# Altium schematic symbol library Miscellaneous Devices.SCHLIB: 265 symbols
Pins are listed as number, name and electrical type; pins without a type are passive.

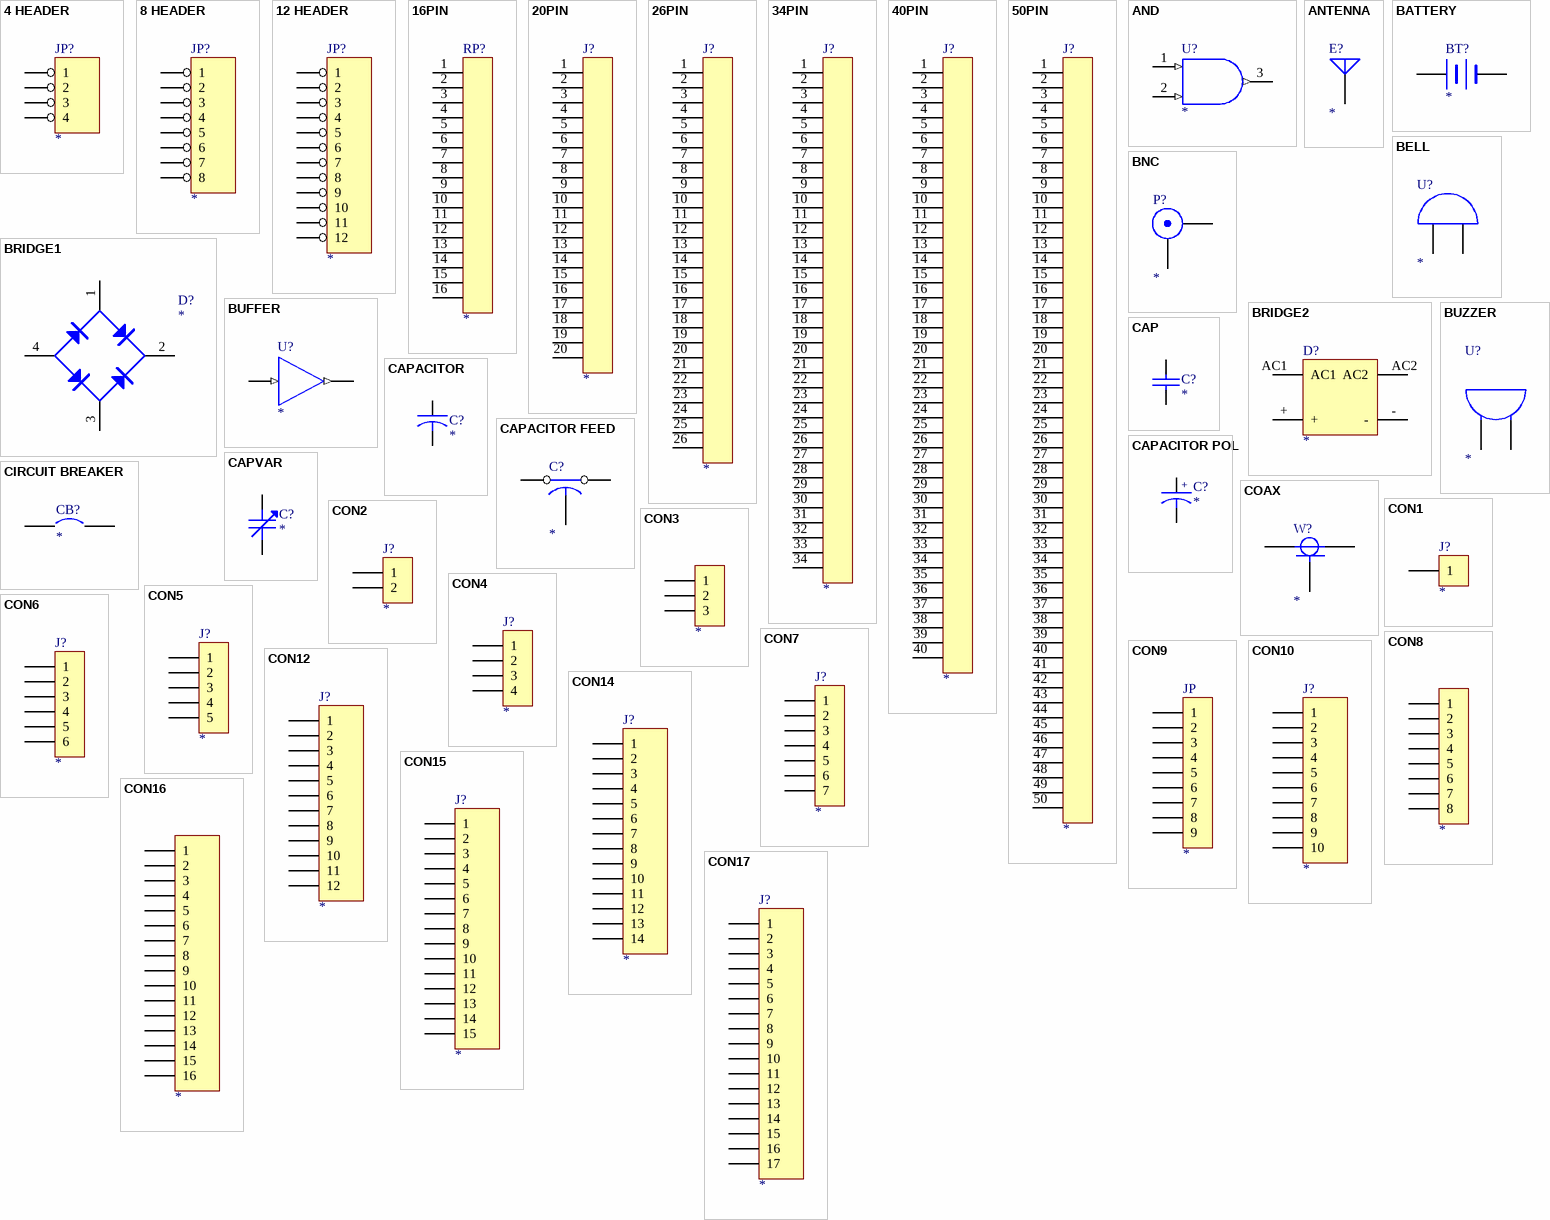
[diagram p0: symbols 4 HEADER to CON17]

## 4 HEADER
designator JP?
4 Pin Header
pins: 1, 2, 3, 4

## 8 HEADER
designator JP?
8 Pin Header
pins: 1, 2, 3, 4, 5, 6, 7, 8

## 12 HEADER
designator JP?
12 Pin Header
pins: 1, 2, 3, 4, 5, 6, 7, 8, 9, 10, 11, 12

## 16PIN
designator RP?
footprint IDC16
pins: 1, 2, 3, 4, 5, 6, 7, 8, 9, 10, 11, 12, 13, 14, 15, 16

## 20PIN
designator J?
footprint IDC20
pins: 1, 2, 3, 4, 5, 6, 7, 8, 9, 10, 11, 12, 13, 14, 15, 16, 17, 18, 19, 20

## 26PIN
designator J?
footprint IDC26
pins: 1, 2, 3, 4, 5, 6, 7, 8, 9, 10, 11, 12, 13, 14, 15, 16, 17, 18, 19, 20, 21, 22, 23, 24, 25, 26

## 34PIN
designator J?
footprint IDC34
pins: 1, 2, 3, 4, 5, 6, 7, 8, 9, 10, 11, 12, 13, 14, 15, 16, 17, 18, 19, 20, 21, 22, 23, 24, 25, 26, 27, 28, 29, 30, 31, 32, 33, 34

## 40PIN
designator J?
footprint IDC40
pins: 1, 2, 3, 4, 5, 6, 7, 8, 9, 10, 11, 12, 13, 14, 15, 16, 17, 18, 19, 20, 21, 22, 23, 24, 25, 26, 27, 28, 29, 30, 31, 32, 33, 34, 35, 36, 37, 38, 39, 40

## 50PIN
designator J?
footprint IDC50
pins: 1, 2, 3, 4, 5, 6, 7, 8, 9, 10, 11, 12, 13, 14, 15, 16, 17, 18, 19, 20, 21, 22, 23, 24, 25, 26, 27, 28, 29, 30, 31, 32, 33, 34, 35, 36, 37, 38, 39, 40, 41, 42, 43, 44, 45, 46, 47, 48, 49, 50

## AND
designator U?
AND Gate
pins: 1 A (in), 2 B (in), 3 Y (out)

## ANTENNA
designator E?
Generic Antenna
pins: 1 A

## BATTERY
designator BT?
Battery
pins: 1 +, 2 -

## BELL
designator U?
Bell
pins: 1 A, 2 B

## BNC
designator P?
BNC Connector
pins: 1 X, 2 Y

## BRIDGE1
designator D?
Diode Bridge
footprint BRIDGE
pins: 1 AC, 2 V+, 3 AC, 4 V-

## BRIDGE2
designator D?
Diode Bridge
footprint BRIDGE
pins: +, -, AC1, AC2

## BUFFER
designator U?
Buffer
pins: 1 A (in), 2 Y (out)

## BUZZER
designator U?
Buzzer
pins: 1 A, 2 B

## CAP
designator C?
Capacitor
pins: 1, 2

## CAPACITOR
designator C?
Capacitor
pins: 1, 2

## CAPACITOR FEED
designator C?
Feed-Through Capacitor
pins: 1, 2, 3

## CAPACITOR POL
designator C?
Capacitor
pins: 1, 2
text: +

## CAPVAR
designator C?
Variable Capacitor
pins: 1, 2

## CIRCUIT BREAKER
designator CB?
Circuit Breaker
pins: 1, 2

## COAX
designator W?
Coaxial
pins: 1 CENTER 1, 2 CENTER 2, 3 SHIELD

## CON1
designator J?
Connector
pins: 1

## CON2
designator J?
Connector
pins: 1, 2

## CON3
designator ?
Connector
footprint SIP3
footprint SIP-3
pins: 1, 2, 3

## CON4
designator J?
Connector
pins: 1, 2, 3, 4

## CON5
designator J?
Connector
pins: 1, 2, 3, 4, 5

## CON6
designator J?
Connector
pins: 1, 2, 3, 4, 5, 6

## CON7
designator J?
Connector
pins: 1, 2, 3, 4, 5, 6, 7

## CON8
designator ?
Connector
footprint SIP8
footprint SIP-8
pins: 1, 2, 3, 4, 5, 6, 7, 8

## CON9
designator JP
Connector
footprint SIP9
pins: 1, 2, 3, 4, 5, 6, 7, 8, 9

## CON10
designator J?
Connector
pins: 1, 2, 3, 4, 5, 6, 7, 8, 9, 10

## CON12
designator J?
Connector
pins: 1, 2, 3, 4, 5, 6, 7, 8, 9, 10, 11, 12

## CON14
designator J?
Connector
pins: 1, 2, 3, 4, 5, 6, 7, 8, 9, 10, 11, 12, 13, 14

## CON15
designator J?
Connector
pins: 1, 2, 3, 4, 5, 6, 7, 8, 9, 10, 11, 12, 13, 14, 15

## CON16
designator ?
Connector
footprint SIP16
footprint SIP-16
pins: 1, 2, 3, 4, 5, 6, 7, 8, 9, 10, 11, 12, 13, 14, 15, 16

## CON17
designator J?
Connector
pins: 1, 2, 3, 4, 5, 6, 7, 8, 9, 10, 11, 12, 13, 14, 15, 16, 17

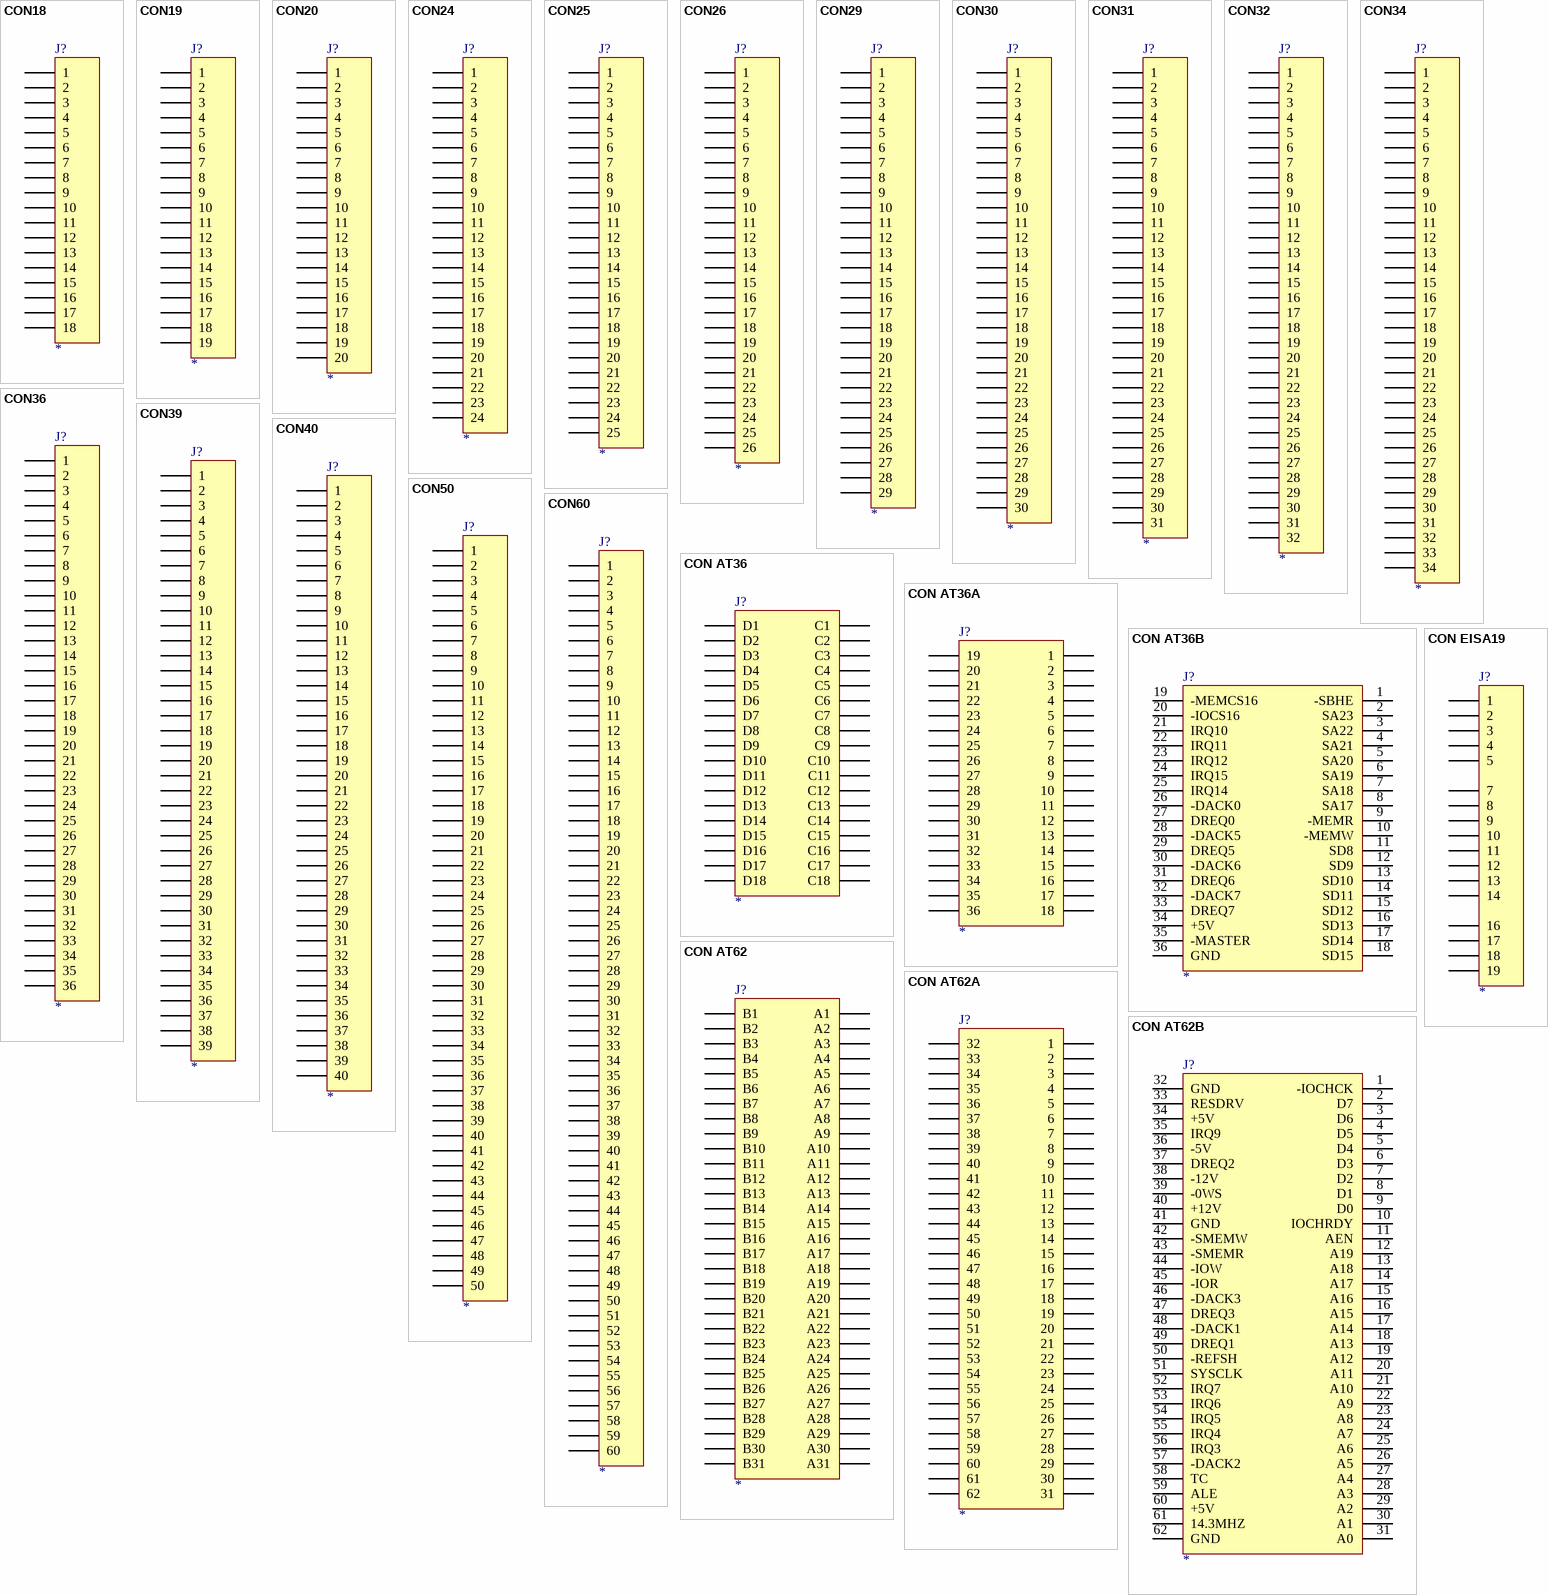
[diagram p1: symbols CON18 to CON EISA19]

## CON18
designator J?
Connector
pins: 1, 2, 3, 4, 5, 6, 7, 8, 9, 10, 11, 12, 13, 14, 15, 16, 17, 18

## CON19
designator J?
Connector
pins: 1, 2, 3, 4, 5, 6, 7, 8, 9, 10, 11, 12, 13, 14, 15, 16, 17, 18, 19

## CON20
designator J?
Connector
pins: 1, 2, 3, 4, 5, 6, 7, 8, 9, 10, 11, 12, 13, 14, 15, 16, 17, 18, 19, 20

## CON24
designator J?
Connector
pins: 1, 2, 3, 4, 5, 6, 7, 8, 9, 10, 11, 12, 13, 14, 15, 16, 17, 18, 19, 20, 21, 22, 23, 24

## CON25
designator J?
Connector
pins: 1, 2, 3, 4, 5, 6, 7, 8, 9, 10, 11, 12, 13, 14, 15, 16, 17, 18, 19, 20, 21, 22, 23, 24, 25

## CON26
designator J?
Connector
pins: 1, 2, 3, 4, 5, 6, 7, 8, 9, 10, 11, 12, 13, 14, 15, 16, 17, 18, 19, 20, 21, 22, 23, 24, 25, 26

## CON29
designator J?
Connector
pins: 1, 2, 3, 4, 5, 6, 7, 8, 9, 10, 11, 12, 13, 14, 15, 16, 17, 18, 19, 20, 21, 22, 23, 24, 25, 26, 27, 28, 29

## CON30
designator J?
Connector
pins: 1, 2, 3, 4, 5, 6, 7, 8, 9, 10, 11, 12, 13, 14, 15, 16, 17, 18, 19, 20, 21, 22, 23, 24, 25, 26, 27, 28, 29, 30

## CON31
designator J?
Connector
pins: 1, 2, 3, 4, 5, 6, 7, 8, 9, 10, 11, 12, 13, 14, 15, 16, 17, 18, 19, 20, 21, 22, 23, 24, 25, 26, 27, 28, 29, 30, 31

## CON32
designator J?
Connector
pins: 1, 2, 3, 4, 5, 6, 7, 8, 9, 10, 11, 12, 13, 14, 15, 16, 17, 18, 19, 20, 21, 22, 23, 24, 25, 26, 27, 28, 29, 30, 31, 32

## CON34
designator J?
Connector
pins: 1, 2, 3, 4, 5, 6, 7, 8, 9, 10, 11, 12, 13, 14, 15, 16, 17, 18, 19, 20, 21, 22, 23, 24, 25, 26, 27, 28, 29, 30, 31, 32, 33, 34

## CON36
designator J?
Connector
pins: 1, 2, 3, 4, 5, 6, 7, 8, 9, 10, 11, 12, 13, 14, 15, 16, 17, 18, 19, 20, 21, 22, 23, 24, 25, 26, 27, 28, 29, 30, 31, 32, 33, 34, 35, 36

## CON39
designator J?
Connector
pins: 1, 2, 3, 4, 5, 6, 7, 8, 9, 10, 11, 12, 13, 14, 15, 16, 17, 18, 19, 20, 21, 22, 23, 24, 25, 26, 27, 28, 29, 30, 31, 32, 33, 34, 35, 36, 37, 38, 39

## CON40
designator J?
Connector
pins: 1, 2, 3, 4, 5, 6, 7, 8, 9, 10, 11, 12, 13, 14, 15, 16, 17, 18, 19, 20, 21, 22, 23, 24, 25, 26, 27, 28, 29, 30, 31, 32, 33, 34, 35, 36, 37, 38, 39, 40

## CON50
designator J?
Connector
pins: 1, 2, 3, 4, 5, 6, 7, 8, 9, 10, 11, 12, 13, 14, 15, 16, 17, 18, 19, 20, 21, 22, 23, 24, 25, 26, 27, 28, 29, 30, 31, 32, 33, 34, 35, 36, 37, 38, 39, 40, 41, 42, 43, 44, 45, 46, 47, 48, 49, 50

## CON60
designator J?
Connector
pins: 1, 2, 3, 4, 5, 6, 7, 8, 9, 10, 11, 12, 13, 14, 15, 16, 17, 18, 19, 20, 21, 22, 23, 24, 25, 26, 27, 28, 29, 30, 31, 32, 33, 34, 35, 36, 37, 38, 39, 40, 41, 42, 43, 44, 45, 46, 47, 48, 49, 50, 51, 52, 53, 54, 55, 56, 57, 58, 59, 60

## CON AT36
designator J?
36 Pin AT Connector
pins: C1, C2, C3, C4, C5, C6, C7, C8, C9, C10, C11, C12, C13, C14, C15, C16, C17, C18, D1, D2, D3, D4, D5, D6, D7, D8, D9, D10, D11, D12, D13, D14, D15, D16, D17, D18

## CON AT36A
designator J?
36 Pin AT Connector
pins: 1, 2, 3, 4, 5, 6, 7, 8, 9, 10, 11, 12, 13, 14, 15, 16, 17, 18, 19, 20, 21, 22, 23, 24, 25, 26, 27, 28, 29, 30, 31, 32, 33, 34, 35, 36

## CON AT36B
designator J?
36 Pin AT Connector
pins: 1 -SBHE, 2 SA23, 3 SA22, 4 SA21, 5 SA20, 6 SA19, 7 SA18, 8 SA17, 9 -MEMR, 10 -MEMW, 11 SD8, 12 SD9, 13 SD10, 14 SD11, 15 SD12, 16 SD13, 17 SD14, 18 SD15, 19 -MEMCS16, 20 -IOCS16, 21 IRQ10, 22 IRQ11, 23 IRQ12, 24 IRQ15, 25 IRQ14, 26 -DACK0, 27 DREQ0, 28 -DACK5, 29 DREQ5, 30 -DACK6, 31 DREQ6, 32 -DACK7, 33 DREQ7, 34 +5V, 35 -MASTER, 36 GND

## CON AT62
designator J?
62 Pin AT Connector
pins: A1, A2, A3, A4, A5, A6, A7, A8, A9, A10, A11, A12, A13, A14, A15, A16, A17, A18, A19, A20, A21, A22, A23, A24, A25, A26, A27, A28, A29, A30, A31, B1, B2, B3, B4, B5, B6, B7, B8, B9, B10, B11, B12, B13, B14, B15, B16, B17, B18, B19, B20, B21, B22, B23, B24, B25, B26, B27, B28, B29, B30, B31

## CON AT62A
designator J?
62 Pin AT Connector
pins: 1, 2, 3, 4, 5, 6, 7, 8, 9, 10, 11, 12, 13, 14, 15, 16, 17, 18, 19, 20, 21, 22, 23, 24, 25, 26, 27, 28, 29, 30, 31, 32, 33, 34, 35, 36, 37, 38, 39, 40, 41, 42, 43, 44, 45, 46, 47, 48, 49, 50, 51, 52, 53, 54, 55, 56, 57, 58, 59, 60, 61, 62

## CON AT62B
designator J?
62 Pin AT Connector
pins: 1 -IOCHCK, 2 D7, 3 D6, 4 D5, 5 D4, 6 D3, 7 D2, 8 D1, 9 D0, 10 IOCHRDY, 11 AEN, 12 A19, 13 A18, 14 A17, 15 A16, 16 A15, 17 A14, 18 A13, 19 A12, 20 A11, 21 A10, 22 A9, 23 A8, 24 A7, 25 A6, 26 A5, 27 A4, 28 A3, 29 A2, 30 A1, 31 A0, 32 GND, 33 RESDRV, 34 +5V, 35 IRQ9, 36 -5V, 37 DREQ2, 38 -12V, 39 -0WS, 40 +12V, 41 GND, 42 -SMEMW, 43 -SMEMR, 44 -IOW, 45 -IOR, 46 -DACK3, 47 DREQ3, 48 -DACK1, 49 DREQ1, 50 -REFSH, 51 SYSCLK, 52 IRQ7, 53 IRQ6, 54 IRQ5, 55 IRQ4, 56 IRQ3, 57 -DACK2, 58 TC, 59 ALE, 60 +5V, 61 14.3MHZ, 62 GND

## CON EISA19
designator J?
19 Pin EISA Connector
pins: 1, 2, 3, 4, 5, 7, 8, 9, 10, 11, 12, 13, 14, 16, 17, 18, 19

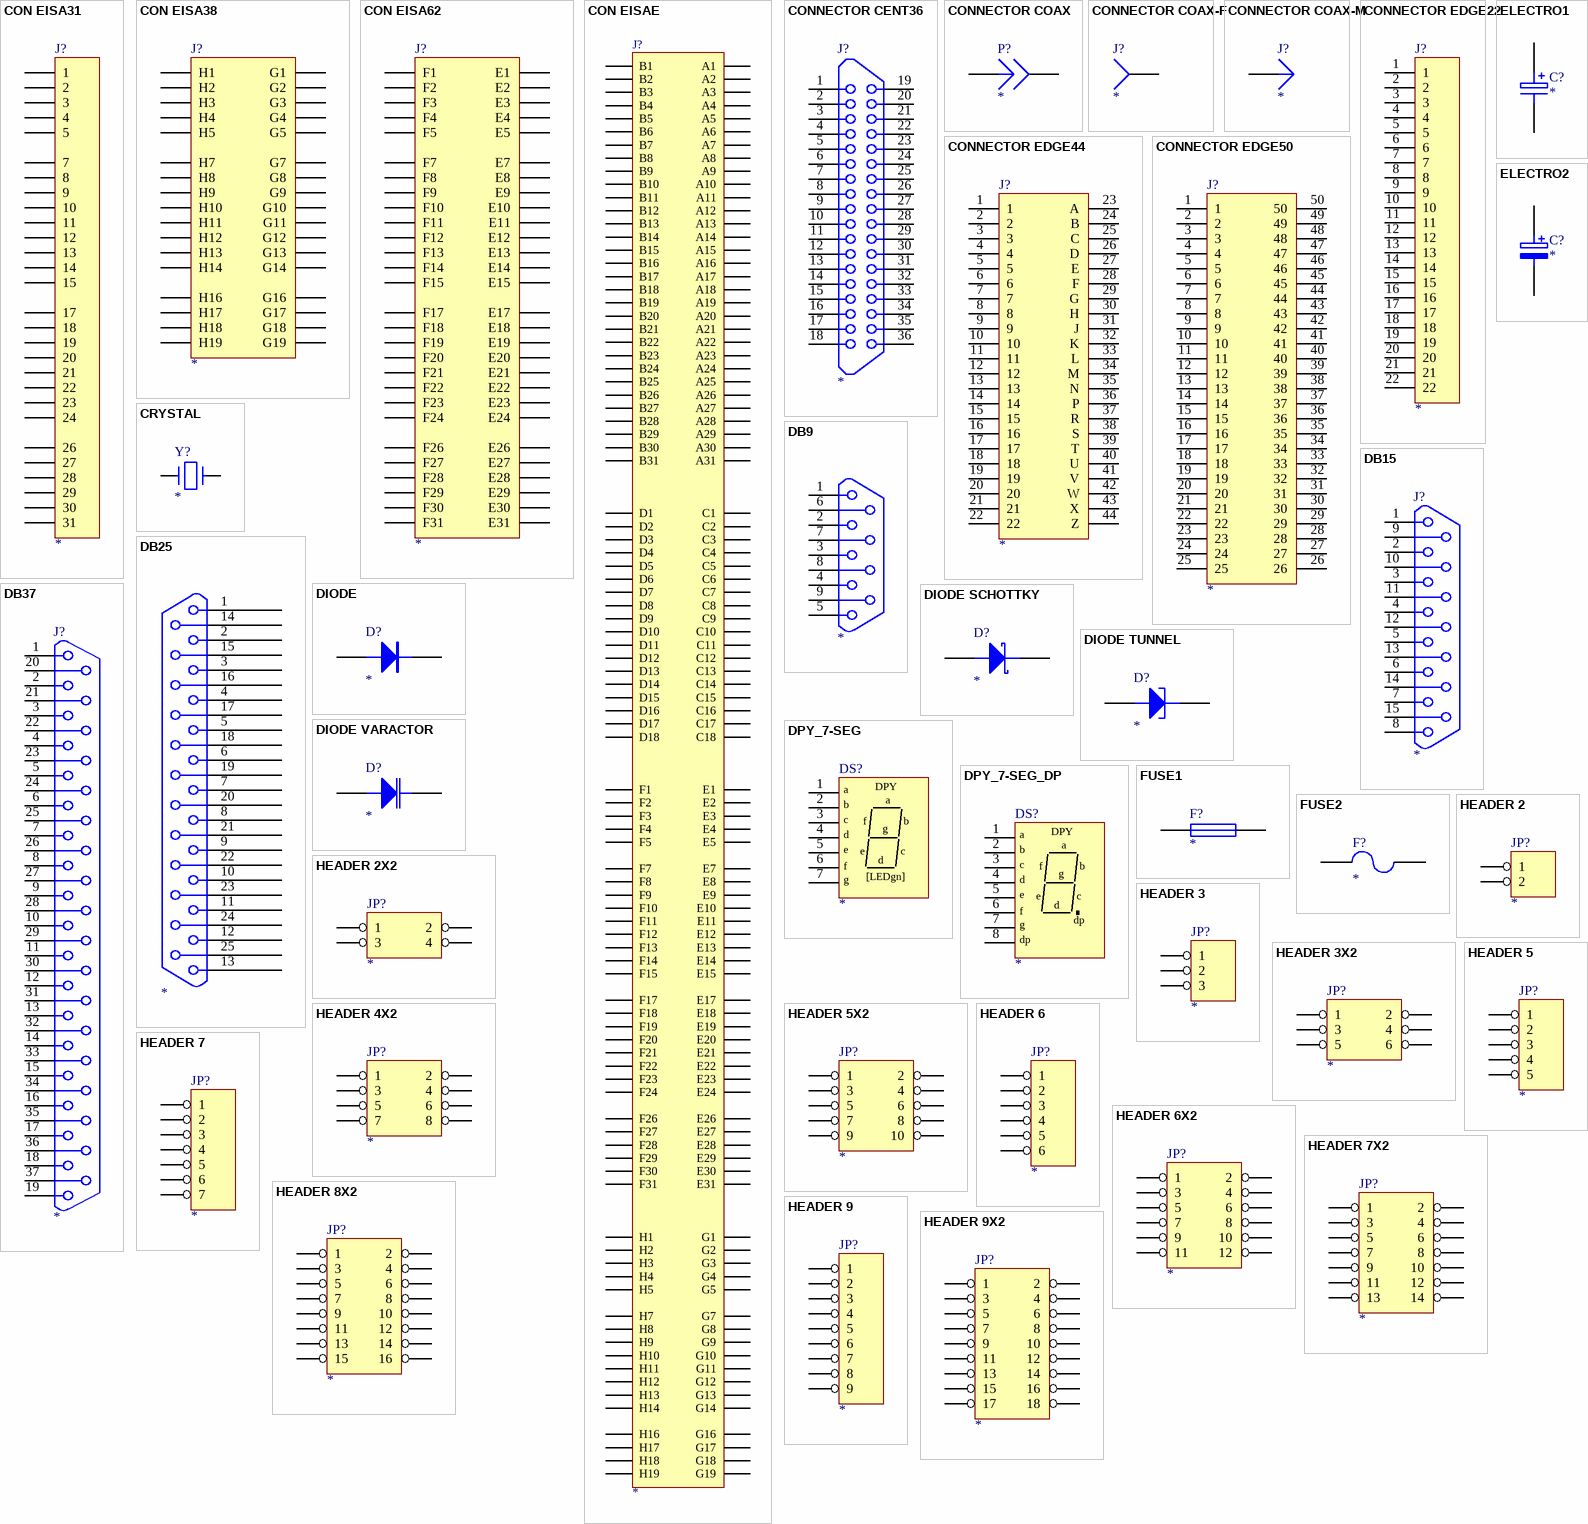
[diagram p2: symbols CON EISA31 to HEADER 9X2]

## CON EISA31
designator J?
31 Pin EISA Connector
pins: 1, 2, 3, 4, 5, 7, 8, 9, 10, 11, 12, 13, 14, 15, 17, 18, 19, 20, 21, 22, 23, 24, 26, 27, 28, 29, 30, 31

## CON EISA38
designator J?
38 Pin EISA Connector; Text Field6: Pins 6, 15, 25 & 34 are not connected;
pins: 1 H1, 2 H2, 3 H3, 4 H4, 5 H5, 7 H7, 8 H8, 9 H9, 10 H10, 11 H11, 12 H12, 13 H13, 14 H14, 16 H16, 17 H17, 18 H18, 19 H19, 20 G1, 21 G2, 22 G3, 23 G4, 24 G5, 26 G7, 27 G8, 28 G9, 29 G10, 30 G11, 31 G12, 32 G13, 33 G14, 35 G16, 36 G17, 37 G18, 38 G19

## CON EISA62
designator J?
62 Pin EISA Connector
pins: E1, E2, E3, E4, E5, E7, E8, E9, E10, E11, E12, E13, E14, E15, E17, E18, E19, E20, E21, E22, E23, E24, E26, E27, E28, E29, E30, E31, F1, F2, F3, F4, F5, F7, F8, F9, F10, F11, F12, F13, F14, F15, F17, F18, F19, F20, F21, F22, F23, F24, F26, F27, F28, F29, F30, F31

## CON EISAE
designator J?
168 Pin EISA Connector
pins: A1, A2, A3, A4, A5, A6, A7, A8, A9, A10, A11, A12, A13, A14, A15, A16, A17, A18, A19, A20, A21, A22, A23, A24, A25, A26, A27, A28, A29, A30, A31, B1, B2, B3, B4, B5, B6, B7, B8, B9, B10, B11, B12, B13, B14, B15, B16, B17, B18, B19, B20, B21, B22, B23, B24, B25, B26, B27, B28, B29, B30, B31, C1, C2, C3, C4, C5, C6, C7, C8, C9, C10, C11, C12, C13, C14, C15, C16, C17, C18, D1, D2, D3, D4, D5, D6, D7, D8, D9, D10, D11, D12, D13, D14, D15, D16, D17, D18, E1, E2, E3, E4, E5, E7, E8, E9, E10, E11, E12, E13, E14, E15, E17, E18, E19, E20, E21, E22, E23, E24, E26, E27, E28, E29, E30, E31, F1, F2, F3, F4, F5, F7, F8, F9, F10, F11, F12, F13, F14, F15, F17, F18, F19, F20, F21, F22, F23, F24, F26, F27, F28, F29, F30, F31, G1, G2, G3, G4, G5, G7, G8, G9, G10, G11, G12, G13, G14, G16, G17, G18, G19, H1, H2, H3, H4, H5, H7, H8, H9, H10, H11, H12, H13, H14, H16, H17, H18, H19

## CONNECTOR CENT36
designator J?
pins: 1, 2, 3, 4, 5, 6, 7, 8, 9, 10, 11, 12, 13, 14, 15, 16, 17, 18, 19, 20, 21, 22, 23, 24, 25, 26, 27, 28, 29, 30, 31, 32, 33, 34, 35, 36

## CONNECTOR COAX
designator P?
pins: A, B

## CONNECTOR COAX-F
designator J?
pins: A

## CONNECTOR COAX-M
designator J?
pins: A

## CONNECTOR EDGE22
designator J?
pins: 1, 2, 3, 4, 5, 6, 7, 8, 9, 10, 11, 12, 13, 14, 15, 16, 17, 18, 19, 20, 21, 22

## CONNECTOR EDGE44
designator J?
pins: 1, 2, 3, 4, 5, 6, 7, 8, 9, 10, 11, 12, 13, 14, 15, 16, 17, 18, 19, 20, 21, 22, 23 A, 24 B, 25 C, 26 D, 27 E, 28 F, 29 G, 30 H, 31 J, 32 K, 33 L, 34 M, 35 N, 36 P, 37 R, 38 S, 39 T, 40 U, 41 V, 42 W, 43 X, 44 Z

## CONNECTOR EDGE50
designator J?
pins: 1, 2, 3, 4, 5, 6, 7, 8, 9, 10, 11, 12, 13, 14, 15, 16, 17, 18, 19, 20, 21, 22, 23, 24, 25, 26, 27, 28, 29, 30, 31, 32, 33, 34, 35, 36, 37, 38, 39, 40, 41, 42, 43, 44, 45, 46, 47, 48, 49, 50

## CRYSTAL
designator Y?
Crystal
pins: 1, 2

## DB9
designator ?
footprint DB9M
pins: 1, 2, 3, 4, 5, 6, 7, 8, 9

## DB15
designator J?
footprint DB-15/M
pins: 1, 2, 3, 4, 5, 6, 7, 8, 9, 10, 11, 12, 13, 14, 15

## DB25
designator ?
footprint DB-25/M
footprint DB25Z
pins: 1, 2, 3, 4, 5, 6, 7, 8, 9, 10, 11, 12, 13, 14, 15, 16, 17, 18, 19, 20, 21, 22, 23, 24, 25

## DB37
designator J?
footprint DB-37/M
pins: 1, 2, 3, 4, 5, 6, 7, 8, 9, 10, 11, 12, 13, 14, 15, 16, 17, 18, 19, 20, 21, 22, 23, 24, 25, 26, 27, 28, 29, 30, 31, 32, 33, 34, 35, 36, 37

## DIODE
designator D?
Diode
pins: 1 A, 2 K

## DIODE SCHOTTKY
designator D?
Schottky Diode
pins: 1 A, 2 K

## DIODE TUNNEL
designator D?
Diode Tunnel
pins: 1 A, 2 K

## DIODE VARACTOR
designator D?
Varactor Diode
pins: 1 A, 2 K

## DPY_7-SEG
designator DS?
Seven-Segment Display
pins: 1 a, 2 b, 3 c, 4 d, 5 e, 6 f, 7 g
text: DPY; [LEDgn]

## DPY_7-SEG_DP
designator DS?
Seven-Segment Display, Right Hand Decimal
pins: 1 a, 2 b, 3 c, 4 d, 5 e, 6 f, 7 g, 8 dp
text: DPY

## ELECTRO1
designator C?
Electrolytic Capacitor
pins: 1, 2

## ELECTRO2
designator C?
Electrolytic Capacitor
pins: 1, 2

## FUSE1
designator F?
Fuse
pins: 1, 2

## FUSE2
designator F?
Fuse
pins: 1, 2

## HEADER 2
designator JP?
pins: 1, 2

## HEADER 2X2
designator JP?
pins: 1, 2, 3, 4

## HEADER 3
designator JP?
pins: 1, 2, 3

## HEADER 3X2
designator JP?
pins: 1, 2, 3, 4, 5, 6

## HEADER 4X2
designator JP?
pins: 1, 2, 3, 4, 5, 6, 7, 8

## HEADER 5
designator JP?
pins: 1, 2, 3, 4, 5

## HEADER 5X2
designator JP?
pins: 1, 2, 3, 4, 5, 6, 7, 8, 9, 10

## HEADER 6
designator JP?
pins: 1, 2, 3, 4, 5, 6

## HEADER 6X2
designator JP?
pins: 1, 2, 3, 4, 5, 6, 7, 8, 9, 10, 11, 12

## HEADER 7
designator JP?
pins: 1, 2, 3, 4, 5, 6, 7

## HEADER 7X2
designator JP?
pins: 1, 2, 3, 4, 5, 6, 7, 8, 9, 10, 11, 12, 13, 14

## HEADER 8X2
designator JP?
pins: 1, 2, 3, 4, 5, 6, 7, 8, 9, 10, 11, 12, 13, 14, 15, 16

## HEADER 9
designator JP?
pins: 1, 2, 3, 4, 5, 6, 7, 8, 9

## HEADER 9X2
designator JP?
pins: 1, 2, 3, 4, 5, 6, 7, 8, 9, 10, 11, 12, 13, 14, 15, 16, 17, 18

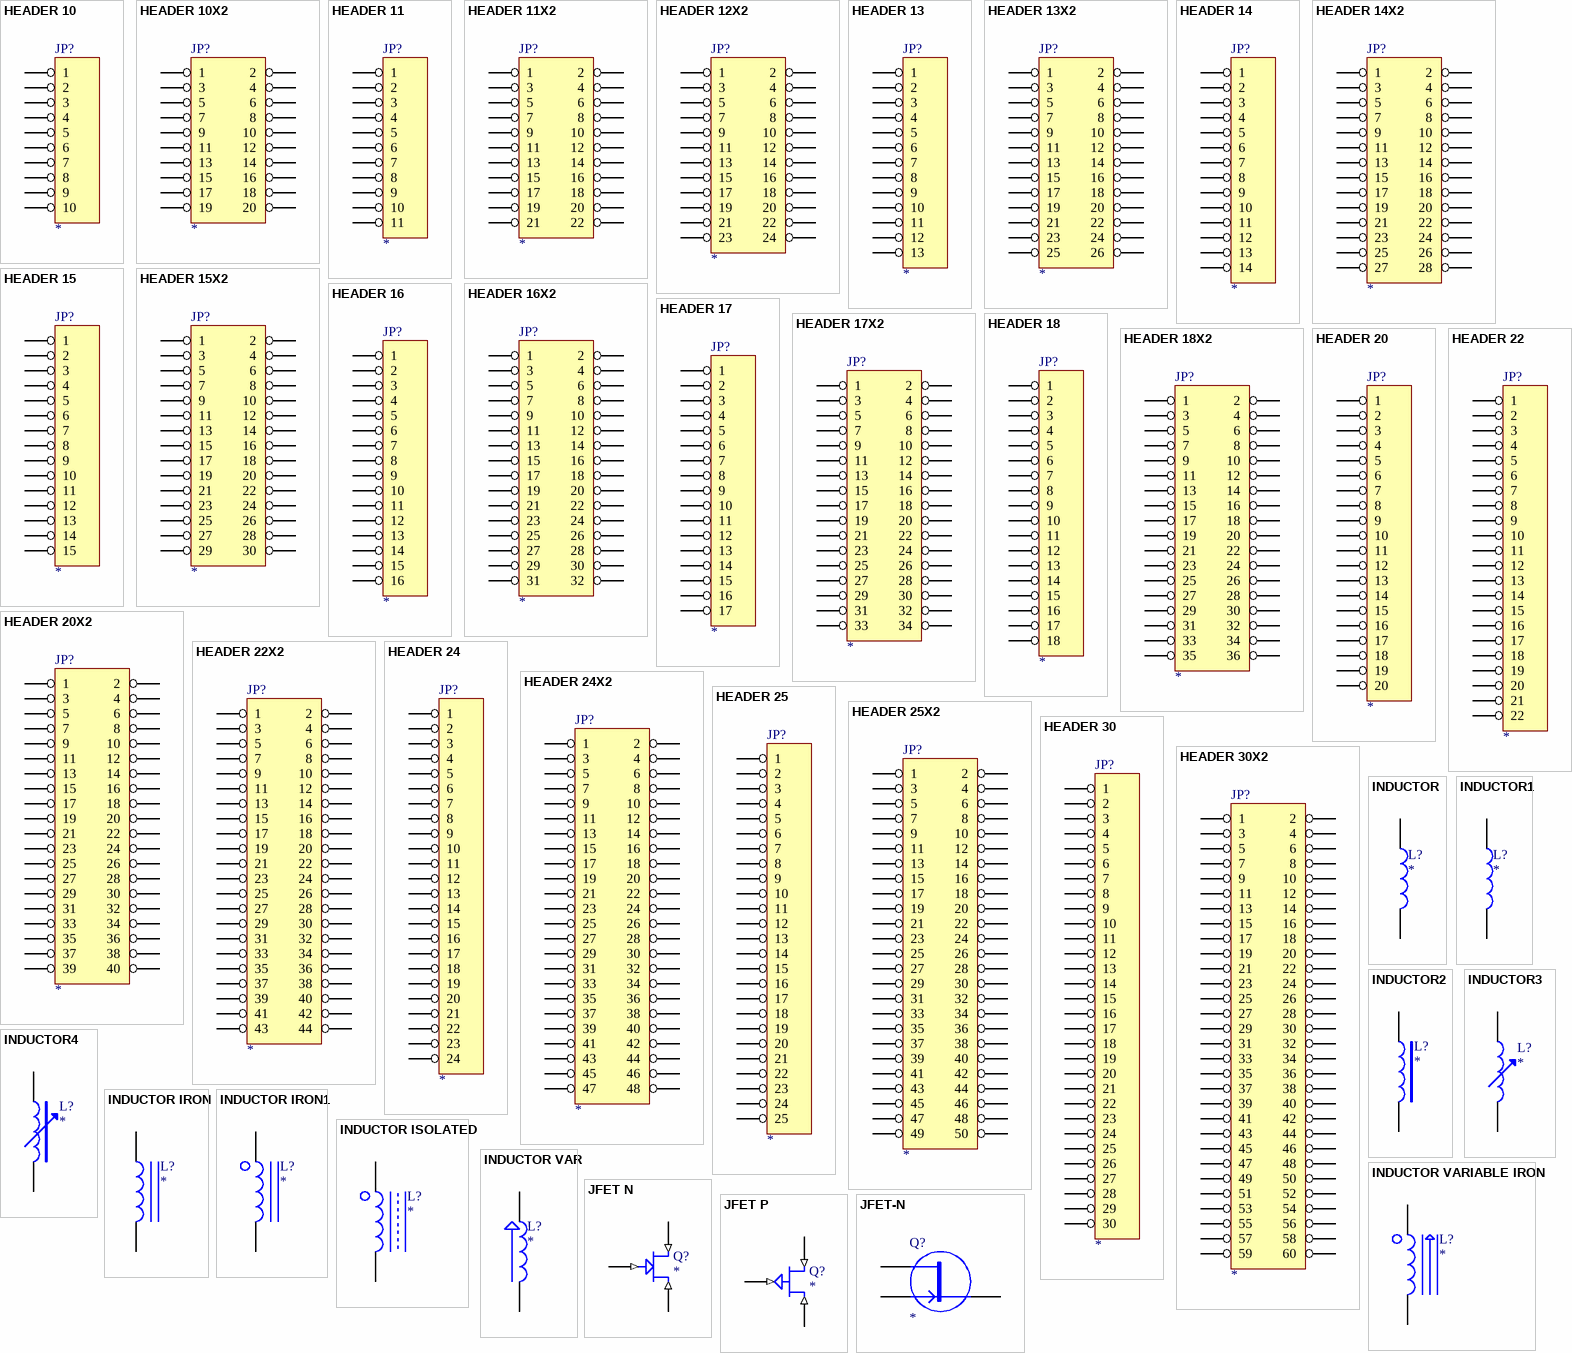
[diagram p3: symbols HEADER 10 to JFET-N]

## HEADER 10
designator JP?
pins: 1, 2, 3, 4, 5, 6, 7, 8, 9, 10

## HEADER 10X2
designator JP?
pins: 1, 2, 3, 4, 5, 6, 7, 8, 9, 10, 11, 12, 13, 14, 15, 16, 17, 18, 19, 20

## HEADER 11
designator JP?
pins: 1, 2, 3, 4, 5, 6, 7, 8, 9, 10, 11

## HEADER 11X2
designator JP?
pins: 1, 2, 3, 4, 5, 6, 7, 8, 9, 10, 11, 12, 13, 14, 15, 16, 17, 18, 19, 20, 21, 22

## HEADER 12X2
designator JP?
pins: 1, 2, 3, 4, 5, 6, 7, 8, 9, 10, 11, 12, 13, 14, 15, 16, 17, 18, 19, 20, 21, 22, 23, 24

## HEADER 13
designator JP?
pins: 1, 2, 3, 4, 5, 6, 7, 8, 9, 10, 11, 12, 13

## HEADER 13X2
designator JP?
pins: 1, 2, 3, 4, 5, 6, 7, 8, 9, 10, 11, 12, 13, 14, 15, 16, 17, 18, 19, 20, 21, 22, 23, 24, 25, 26

## HEADER 14
designator JP?
pins: 1, 2, 3, 4, 5, 6, 7, 8, 9, 10, 11, 12, 13, 14

## HEADER 14X2
designator JP?
pins: 1, 2, 3, 4, 5, 6, 7, 8, 9, 10, 11, 12, 13, 14, 15, 16, 17, 18, 19, 20, 21, 22, 23, 24, 25, 26, 27, 28

## HEADER 15
designator JP?
pins: 1, 2, 3, 4, 5, 6, 7, 8, 9, 10, 11, 12, 13, 14, 15

## HEADER 15X2
designator JP?
pins: 1, 2, 3, 4, 5, 6, 7, 8, 9, 10, 11, 12, 13, 14, 15, 16, 17, 18, 19, 20, 21, 22, 23, 24, 25, 26, 27, 28, 29, 30

## HEADER 16
designator JP?
pins: 1, 2, 3, 4, 5, 6, 7, 8, 9, 10, 11, 12, 13, 14, 15, 16

## HEADER 16X2
designator JP?
pins: 1, 2, 3, 4, 5, 6, 7, 8, 9, 10, 11, 12, 13, 14, 15, 16, 17, 18, 19, 20, 21, 22, 23, 24, 25, 26, 27, 28, 29, 30, 31, 32

## HEADER 17
designator JP?
pins: 1, 2, 3, 4, 5, 6, 7, 8, 9, 10, 11, 12, 13, 14, 15, 16, 17

## HEADER 17X2
designator JP?
pins: 1, 2, 3, 4, 5, 6, 7, 8, 9, 10, 11, 12, 13, 14, 15, 16, 17, 18, 19, 20, 21, 22, 23, 24, 25, 26, 27, 28, 29, 30, 31, 32, 33, 34

## HEADER 18
designator JP?
pins: 1, 2, 3, 4, 5, 6, 7, 8, 9, 10, 11, 12, 13, 14, 15, 16, 17, 18

## HEADER 18X2
designator JP?
pins: 1, 2, 3, 4, 5, 6, 7, 8, 9, 10, 11, 12, 13, 14, 15, 16, 17, 18, 19, 20, 21, 22, 23, 24, 25, 26, 27, 28, 29, 30, 31, 32, 33, 34, 35, 36

## HEADER 20
designator JP?
pins: 1, 2, 3, 4, 5, 6, 7, 8, 9, 10, 11, 12, 13, 14, 15, 16, 17, 18, 19, 20

## HEADER 20X2
designator JP?
pins: 1, 2, 3, 4, 5, 6, 7, 8, 9, 10, 11, 12, 13, 14, 15, 16, 17, 18, 19, 20, 21, 22, 23, 24, 25, 26, 27, 28, 29, 30, 31, 32, 33, 34, 35, 36, 37, 38, 39, 40

## HEADER 22
designator JP?
pins: 1, 2, 3, 4, 5, 6, 7, 8, 9, 10, 11, 12, 13, 14, 15, 16, 17, 18, 19, 20, 21, 22

## HEADER 22X2
designator JP?
pins: 1, 2, 3, 4, 5, 6, 7, 8, 9, 10, 11, 12, 13, 14, 15, 16, 17, 18, 19, 20, 21, 22, 23, 24, 25, 26, 27, 28, 29, 30, 31, 32, 33, 34, 35, 36, 37, 38, 39, 40, 41, 42, 43, 44

## HEADER 24
designator JP?
pins: 1, 2, 3, 4, 5, 6, 7, 8, 9, 10, 11, 12, 13, 14, 15, 16, 17, 18, 19, 20, 21, 22, 23, 24

## HEADER 24X2
designator JP?
pins: 1, 2, 3, 4, 5, 6, 7, 8, 9, 10, 11, 12, 13, 14, 15, 16, 17, 18, 19, 20, 21, 22, 23, 24, 25, 26, 27, 28, 29, 30, 31, 32, 33, 34, 35, 36, 37, 38, 39, 40, 41, 42, 43, 44, 45, 46, 47, 48

## HEADER 25
designator JP?
pins: 1, 2, 3, 4, 5, 6, 7, 8, 9, 10, 11, 12, 13, 14, 15, 16, 17, 18, 19, 20, 21, 22, 23, 24, 25

## HEADER 25X2
designator JP?
pins: 1, 2, 3, 4, 5, 6, 7, 8, 9, 10, 11, 12, 13, 14, 15, 16, 17, 18, 19, 20, 21, 22, 23, 24, 25, 26, 27, 28, 29, 30, 31, 32, 33, 34, 35, 36, 37, 38, 39, 40, 41, 42, 43, 44, 45, 46, 47, 48, 49, 50

## HEADER 30
designator JP?
pins: 1, 2, 3, 4, 5, 6, 7, 8, 9, 10, 11, 12, 13, 14, 15, 16, 17, 18, 19, 20, 21, 22, 23, 24, 25, 26, 27, 28, 29, 30

## HEADER 30X2
designator JP?
pins: 1, 2, 3, 4, 5, 6, 7, 8, 9, 10, 11, 12, 13, 14, 15, 16, 17, 18, 19, 20, 21, 22, 23, 24, 25, 26, 27, 28, 29, 30, 31, 32, 33, 34, 35, 36, 37, 38, 39, 40, 41, 42, 43, 44, 45, 46, 47, 48, 49, 50, 51, 52, 53, 54, 55, 56, 57, 58, 59, 60

## INDUCTOR
designator L?
pins: 1, 2

## INDUCTOR1
designator L?
pins: 1, 2

## INDUCTOR2
designator L?
pins: 1, 2

## INDUCTOR3
designator L?
pins: 1, 2

## INDUCTOR4
designator L?
pins: 1, 2

## INDUCTOR IRON
designator L?
pins: 1, 2

## INDUCTOR IRON1
designator L?
pins: 1, 2

## INDUCTOR ISOLATED
designator L?
pins: 1, 2

## INDUCTOR VAR
designator L?
pins: 1, 2

## INDUCTOR VARIABLE IRON
designator L?
pins: 1, 2

## JFET N
designator Q?
pins: 1 G (in), 2 D (in), 3 S (in)

## JFET P
designator Q?
pins: 1 G (in), 2 D (in), 3 S (in)

## JFET-N
designator Q?
pins: 1 D, 2 G, 3 S

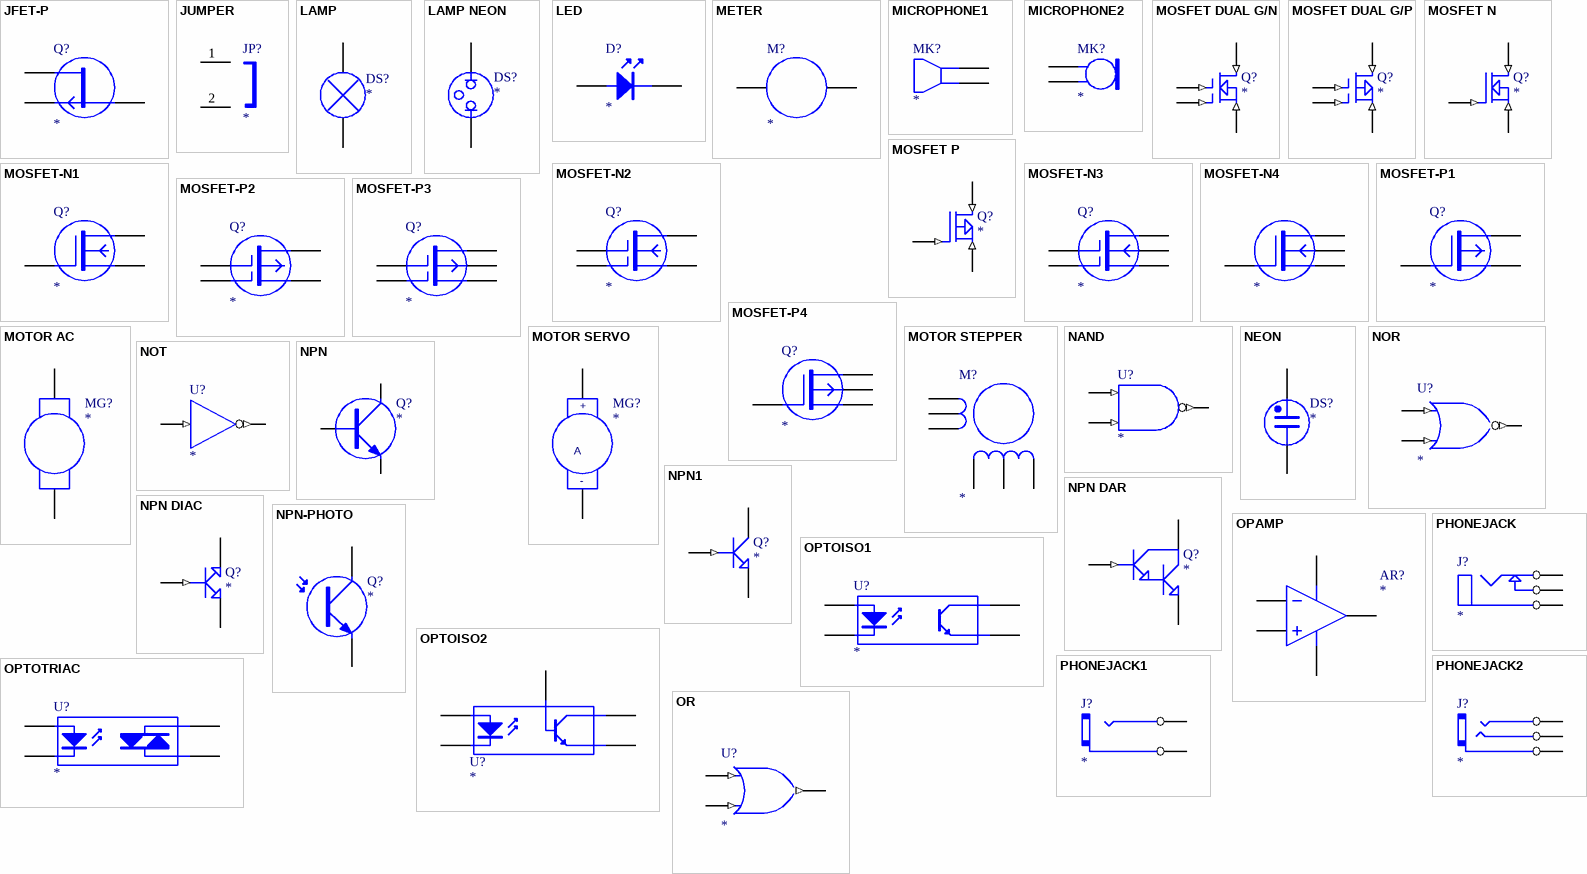
[diagram p4: symbols JFET-P to PHONEJACK2]

## JFET-P
designator Q?
pins: 1 D, 2 G, 3 S

## JUMPER
designator JP?
Jumper
footprint RAD0.2
pins: 1, 2

## LAMP
designator DS?
pins: 1, 2

## LAMP NEON
designator DS?
pins: 1, 2

## LED
designator D?
footprint 0805; pin to pad A>1 K>2
pins: A 1, K 2

## METER
designator M?
pins: 1, 2

## MICROPHONE1
designator MK?
Microphone
pins: 1, 2

## MICROPHONE2
designator MK?
Microphone
pins: 1, 2

## MOSFET DUAL G/N
designator Q?
pins: 1 G1 (in), 2 G2 (in), 3 D (in), 4 S (in)

## MOSFET DUAL G/P
designator Q?
pins: 1 G1 (in), 2 G2 (in), 3 D (in), 4 S (in)

## MOSFET N
designator Q?
pins: 1 G (in), 2 D (in), 3 S (in)

## MOSFET P
designator Q?
pins: 1 G (in), 2 D (in), 3 S (in)

## MOSFET-N1
designator Q?
pins: 1 G, 2 D, 3 S

## MOSFET-N2
designator Q?
pins: 1 G1, 2 G2, 3 D, 4 S

## MOSFET-N3
designator Q?
pins: 1 G1, 2 G2, 3 D, 4 U, 5 S

## MOSFET-N4
designator ?
pins: 1 G, 2 D, 3 U, 4 S

## MOSFET-P1
designator Q?
pins: 1 G, 2 D, 3 S

## MOSFET-P2
designator Q?
pins: 1 G1, 2 G2, 3 D, 4 S

## MOSFET-P3
designator Q?
pins: 1 G1, 2 G2, 3 D, 4 U, 5 S

## MOSFET-P4
designator Q?
pins: 1 G, 2 D, 3 U, 4 S

## MOTOR AC
designator MG?
pins: 1, 2

## MOTOR SERVO
designator MG?
pins: 1 +, 2 -
text: A

## MOTOR STEPPER
designator M?
pins: 1, 2, 3, 4, 5, 6

## NAND
designator U?
NAND Gate
pins: 1 A (in), 2 B (in), 3 Y (out)

## NEON
designator DS?
pins: 1, 2

## NOR
designator U?
NOR Gate
pins: 1 A (in), 2 B (in), 3 Y (out)

## NOT
designator U?
Inverter
pins: 1 A (in), 2 Y (out)

## NPN
designator Q?
NPN Transistor
pins: 1 E, 2 B, 3 C

## NPN1
designator Q?
NPN Transistor
pins: 1 B (in), 2 C, 3 E

## NPN DAR
designator Q?
NPN Darlington Transistor
pins: 1 B (in), 2 C, 3 E

## NPN DIAC
designator Q?
pins: 1 B (in), 2 C, 3 E

## NPN-PHOTO
designator Q?
pins: 1 C, 2 E

## OPAMP
designator AR?
Operational Amplifier
pins: 1 IN-, 2 IN+, 3 OUT, 4 V+, 5 V-

## OPTOISO1
designator U?
Optoisolator
pins: 1 A, 2 K, 3 C, 4 E

## OPTOISO2
designator U?
Optoisolator
pins: 1 A, 2 K, 3 B, 4 C, 5 E

## OPTOTRIAC
designator U?
pins: 1 A, 2 K, 3 A/K, 4 A/K

## OR
designator U?
OR Gate
pins: 1 A (in), 2 B (in), 3 Y (out)

## PHONEJACK
designator J?
pins: 1 A, 2 B, 3 C

## PHONEJACK1
designator J?
pins: 1 A, 2 B

## PHONEJACK2
designator J?
pins: 1 A, 2 B, 3 C

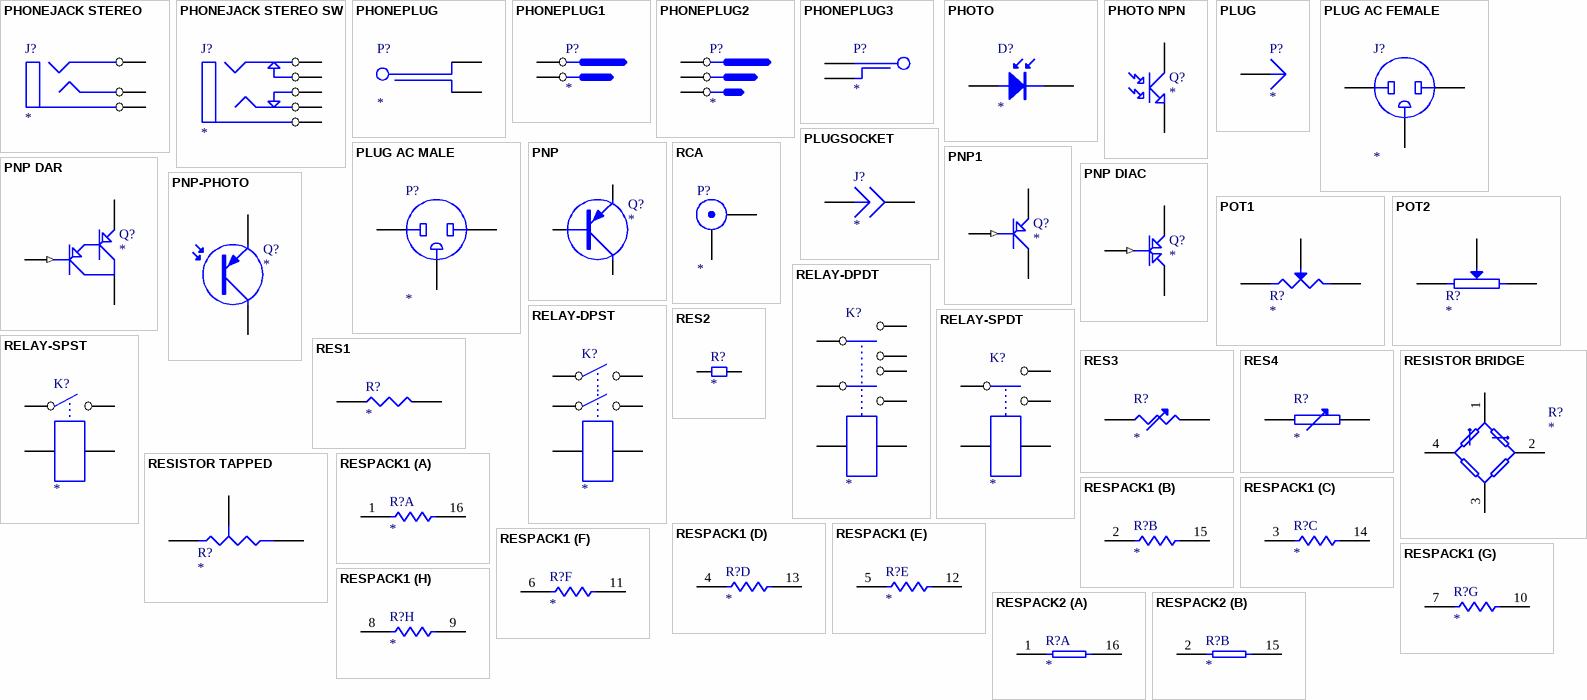
[diagram p5: symbols PHONEJACK STEREO to RESPACK2]

## PHONEJACK STEREO
designator J?
pins: 1 A, 2 B, 3 C

## PHONEJACK STEREO SW
designator J?
pins: 1 A, 2 B, 3 C, 4 D, 5 E

## PHONEPLUG
designator P?
pins: 1 A, 2 B

## PHONEPLUG1
designator P?
pins: 1 A, 2 B

## PHONEPLUG2
designator P?
pins: 1 A, 2 B, 3 C

## PHONEPLUG3
designator P?
pins: 1 A, 2 B

## PHOTO
designator D?
Photosensitive Diode
pins: 1 A, 2 K

## PHOTO NPN
designator Q?
NPN Phototransistor
pins: 1 C, 2 E

## PLUG
designator P?
pins: 1

## PLUG AC FEMALE
designator J?
pins: 1 A, 2 B, 3 GND

## PLUG AC MALE
designator P?
pins: 1 A, 2 B, 3 GND

## PLUGSOCKET
designator J?
pins: 1, 2

## PNP
designator Q?
PNP Transistor
pins: 1 E, 2 B, 3 C

## PNP1
designator Q?
PNP Transistor
pins: 1 B (in), 2 E, 3 C

## PNP DAR
designator Q?
PNP Darlington Transistor
pins: 1 B (in), 3 C, E 2

## PNP DIAC
designator Q?
pins: 1 B (in), 2 E, 3 C

## PNP-PHOTO
designator Q?
pins: C, E

## POT1
designator R?
Potentiometer
pins: 1, 2, 3 W

## POT2
designator R?
Potentiometer
pins: 1, 2, 3 W

## RCA
designator P?
RCA Connector
pins: 1 X, 2 Y

## RELAY-DPDT
designator K?
pins: 1, 2, 3, 4, 5, 6, 7, 8

## RELAY-DPST
designator K?
pins: 1, 2, 3, 4, 5, 6

## RELAY-SPDT
designator K?
pins: 1, 2, 3, 4, 5

## RELAY-SPST
designator K?
pins: 1, 2, 3, 4

## RES1
designator R?
pins: 1, 2

## RES2
designator R?
pins: 1, 2

## RES3
designator R?
pins: 1, 2

## RES4
designator R?
pins: 1, 2

## RESISTOR BRIDGE
designator R?
Resistor Bridge
pins: 1, 2, 3, 4

## RESISTOR TAPPED
designator R?
pins: 1 A, 2 B, 3 TAP

## RESPACK1
designator R?
footprint DIP-16
part A pins: 1, 16
part B pins: 2, 15
part C pins: 3, 14
part D pins: 4, 13
part E pins: 5, 12
part F pins: 6, 11
part G pins: 7, 10
part H pins: 8, 9

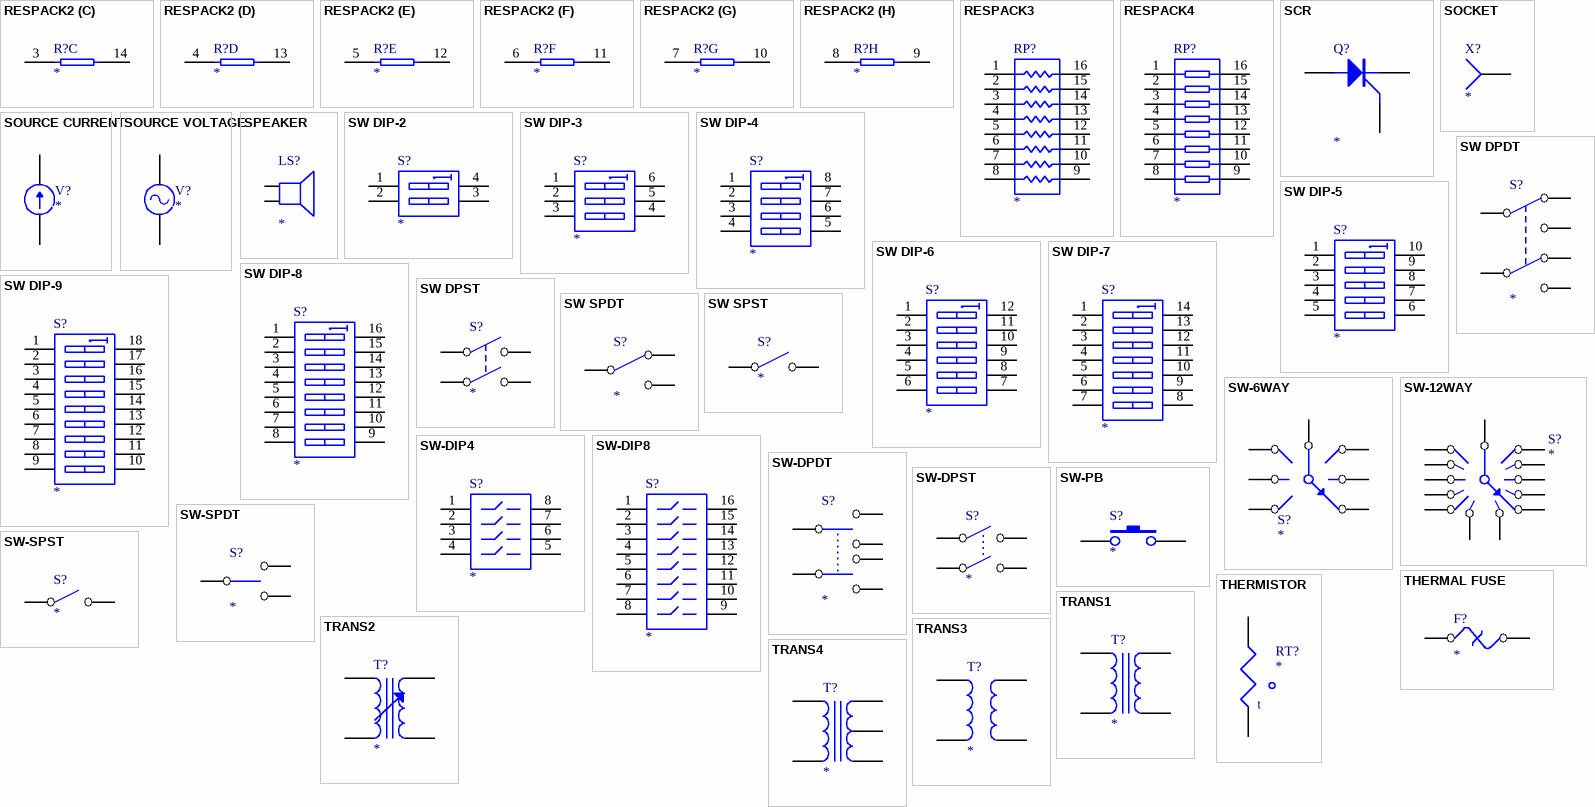
[diagram p6: symbols RESPACK2 to TRANS4]

## RESPACK2
designator R?
footprint DIP-16
part A pins: 1, 16
part B pins: 2, 15
part C pins: 3, 14
part D pins: 4, 13
part E pins: 5, 12
part F pins: 6, 11
part G pins: 7, 10
part H pins: 8, 9

## RESPACK3
designator RP?
footprint DIP-16
pins: 1, 2, 3, 4, 5, 6, 7, 8, 9, 10, 11, 12, 13, 14, 15, 16

## RESPACK4
designator RP?
footprint DIP-16
pins: 1, 2, 3, 4, 5, 6, 7, 8, 9, 10, 11, 12, 13, 14, 15, 16

## SCR
designator Q?
pins: 1 A, 2 K, 3 G

## SOCKET
designator X?
pins: 1

## SOURCE CURRENT
designator V?
pins: 1, 2

## SOURCE VOLTAGE
designator V?
pins: 1, 2

## SPEAKER
designator LS?
pins: 1, 2

## SW DIP-2
designator S?
DIP Switch
pins: 1 A1, 2 A2, 3 B2, 4 B1

## SW DIP-3
designator S?
DIP Switch
pins: 1 A1, 2 A2, 3 A3, 4 B3, 5 B2, 6 B1

## SW DIP-4
designator S?
DIP Switch
pins: 1 A1, 2 A2, 3 A3, 4 A4, 5 B4, 6 B3, 7 B2, 8 B1

## SW DIP-5
designator S?
DIP Switch
pins: 1 A1, 2 A2, 3 A3, 4 A4, 5 A5, 6 B5, 7 B4, 8 B3, 9 B2, 10 B1

## SW DIP-6
designator S?
DIP Switch
pins: 1 A1, 2 A2, 3 A3, 4 A4, 5 A5, 6 A6, 7 B6, 8 B5, 9 B4, 10 B3, 11 B2, 12 B1

## SW DIP-7
designator S?
DIP Switch
pins: 1 A1, 2 A2, 3 A3, 4 A4, 5 A5, 6 A6, 7 A7, 8 B7, 9 B6, 10 B5, 11 B4, 12 B3, 13 B2, 14 B1

## SW DIP-8
designator S?
DIP Switch
pins: 1 A1, 2 A2, 3 A3, 4 A4, 5 A5, 6 A6, 7 A7, 8 A8, 9 B8, 10 B7, 11 B6, 12 B5, 13 B4, 14 B3, 15 B2, 16 B1

## SW DIP-9
designator S?
DIP Switch
pins: 1 A1, 2 A2, 3 A3, 4 A4, 5 A5, 6 A6, 7 A7, 8 A8, 9 A9, 10 B9, 11 B8, 12 B7, 13 B6, 14 B5, 15 B4, 16 B3, 17 B2, 18 B1

## SW DPDT
designator S?
pins: 1 COMMON1, 2 NC1, 3 NO1, 4 NC2, 5 COMMON2, 6 NO2

## SW DPST
designator S?
pins: 1 COMMON1, 2 NO1, 3 COMMON2, 4 NO2

## SW SPDT
designator S?
pins: 1 COMMON, 2 NC, 3 NO

## SW SPST
designator S?
pins: 1 COMMON, 2 NO

## SW-6WAY
designator S?
pins: 1, 2, 3, 4, 5, 6, 7

## SW-12WAY
designator S?
pins: 1, 2, 3, 4, 5, 6, 7, 8, 9, 10, 11, 12, 13

## SW-DIP4
designator S?
footprint DIP-8
pins: 1, 2, 3, 4, 5, 6, 7, 8

## SW-DIP8
designator S?
footprint DIP-16
pins: 1, 2, 3, 4, 5, 6, 7, 8, 9, 10, 11, 12, 13, 14, 15, 16

## SW-DPDT
designator S?
pins: 1, 2, 3, 4, 5, 6

## SW-DPST
designator S?
pins: 1, 2, 3, 4

## SW-PB
designator S?
pins: 1, 2

## SW-SPDT
designator S?
pins: 1, 2, 3

## SW-SPST
designator S?
pins: 1, 2

## THERMAL FUSE
designator F?
pins: 1, 2

## THERMISTOR
designator RT?
pins: 1, 2
text: t

## TRANS1
designator T?
pins: 1, 2, 3, 4

## TRANS2
designator T?
pins: 1, 2, 3, 4

## TRANS3
designator T?
pins: 1, 2, 3, 4

## TRANS4
designator T?
pins: 1, 2, 3, 4, 5

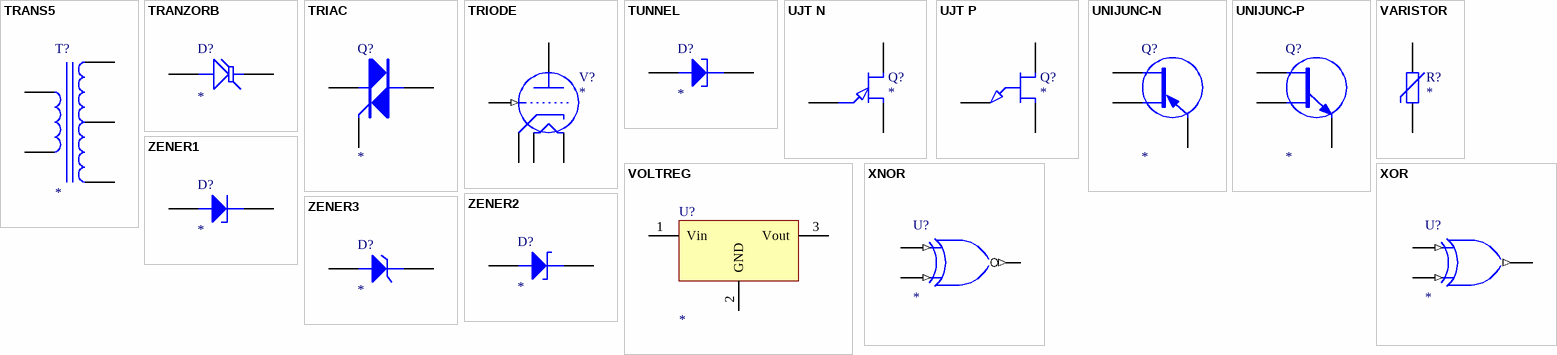
[diagram p7: symbols TRANS5 to ZENER3]

## TRANS5
designator T?
pins: 1, 2, 3, 4, 5

## TRANZORB
designator D?
pins: 1 A, 2 K

## TRIAC
designator Q?
pins: 1 T, 2 T, 3 G

## TRIODE
designator V?
Thyratron
pins: 1 GRID (in), 2 PLATE, 3 CATHODE, 4 FILAMENT1, 5 FILAMENT2

## TUNNEL
designator D?
Tunnel FDiode
pins: 1 A, 2 K

## UJT N
designator Q?
pins: 1 E, 2 B2, 3 B1

## UJT P
designator Q?
pins: 1 E, 2 B1, 3 B2

## UNIJUNC-N
designator Q?
pins: 1 B1, 2 B2, 3 E

## UNIJUNC-P
designator Q?
pins: 1 B1, 2 B2, 3 E

## VARISTOR
designator R?
pins: 1, 2

## VOLTREG
designator U?
footprint TO220H
pins: 1 Vin, 2 GND, 3 Vout

## XNOR
designator U?
XNOR Gate
pins: 1 A (in), 2 B (in), 3 Y (out)

## XOR
designator U?
XOR Gate
pins: 1 A (in), 2 B (in), 3 Y (out)

## ZENER1
designator D?
Zener Diode
pins: 1 A, 2 K

## ZENER2
designator D?
Zener Diode
pins: 1 A, 2 K

## ZENER3
designator D?
Zener Diode
pins: 1 A, 2 K